# Altium footprint library SOIC-14_300mil.PcbLib: 1 footprints
Each footprint in its own frame and in the unit in brackets; x right, y up, seen from the top. Pads: shape width x height; smd on the part's side, far side on the other; paste and mask are expansions set on the pad; w line width, h text height; cw(c..) or ccw(c..) is an arc to the next point about the centre after c.
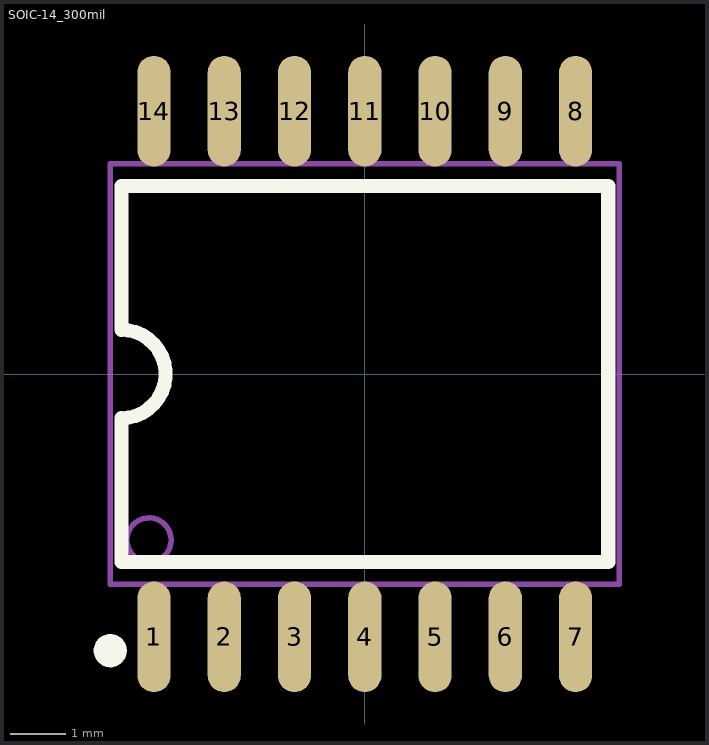
[diagram p0: the footprint, top view; thin cyan lines are the x and y axes]

## SOIC-14_300mil [mm]
pads (14):
  oval 0.6x2 smd: 1(-3.81,-4.75) 2(-2.54,-4.75) 3(-1.27,-4.75) 4(0,-4.75) 5(1.27,-4.75) 6(2.54,-4.75) 7(3.81,-4.75) 8(3.81,4.75) 9(2.54,4.75) 10(1.27,4.75) 11(0,4.75) 12(-1.27,4.75) 13(-2.54,4.75) 14(-3.81,4.75)
Top Overlay:
  circle w0.3: c-4.6,-5 r0.15
  lines w0.254: -4.4,-3.4 4.4,-3.4 4.4,3.4 -4.4,3.4 -4.4,0.8 cw(c-4.4,0) -4.4,-0.8 -4.4,-3.4
Mechanical 13:
  circle w0.1: c-3.9,-3 r0.4
  lines w0.1: -4.6,-3.8 4.6,-3.8 4.6,3.8 -4.6,3.8 -4.6,-3.8